# EAGLE library part NRF24-BREAKOUT (library nrf24-breakout)
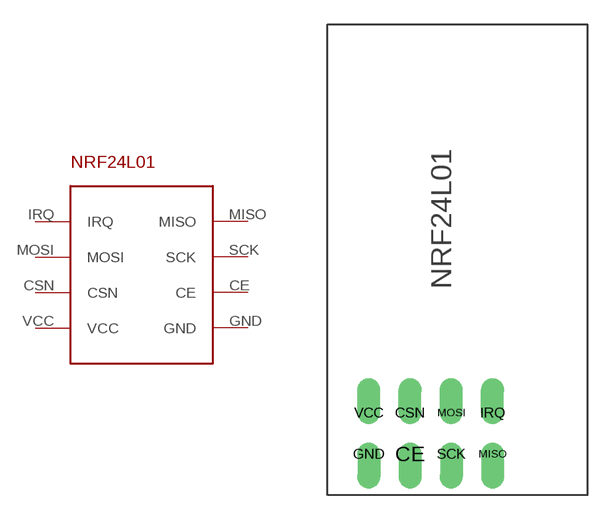
[diagram p0: symbol with the pads of NRF24-BREAKOUT; footprint NRF24-BREAKOUT]

Designator prefix -

## NRF24-BREAKOUT  [NRF24-BREAKOUT]
CE  CE  in
CSN  CSN  in
GND  GND  pwr
IRQ  IRQ  out
MISO  MISO
MOSI  MOSI
SCK  SCK  in
VCC  VCC  pwr

## Footprint NRF24-BREAKOUT (pad centres in mm)
drill 0.8 pad 1.422 offset: CE 5.08,2.54; CSN 5.08,5.08; GND 2.54,2.54; IRQ 10.16,5.08; MISO 10.16,2.54; MOSI 7.62,5.08; SCK 7.62,2.54; VCC 2.54,5.08